# EAGLE library part ESP8266NODEMCU (library ACEIRMC ESP8266 ESP-12 ESP-12F NodeMcu)
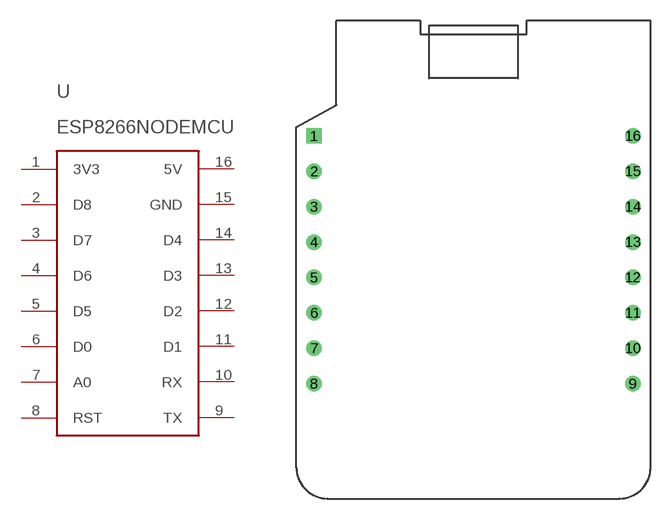
[diagram p0: symbol with the pads of MCU; footprint MCU]

Designator prefix -

## ESP8266NODEMCU  [MCU]
1  3V3
2  D8
3  D7
4  D6
5  D5
6  D0
7  A0
8  RST
9  TX
10  RX
11  D1
12  D2
13  D3
14  D4
15  GND
16  5V

## Footprint MCU (pad centres in mm)
drill 0.6 square: 1 -11.43,8.572
drill 0.6: 2 -11.43,6.032; 3 -11.43,3.493; 4 -11.43,0.953; 5 -11.43,-1.587; 6 -11.43,-4.128; 7 -11.43,-6.668; 8 -11.43,-9.207; 9 11.43,-9.207; 10 11.43,-6.668; 11 11.43,-4.128; 12 11.43,-1.587; 13 11.43,0.953; 14 11.43,3.493; 15 11.43,6.032; 16 11.43,8.572